# Altium footprint library SM_DIODE_SMA-F.PcbLib: 1 footprints
Each footprint in its own frame and in the unit in brackets; x right, y up, seen from the top. Pads: shape width x height; smd on the part's side, far side on the other; paste and mask are expansions set on the pad; w line width, h text height; cw(c..) or ccw(c..) is an arc to the next point about the centre after c.
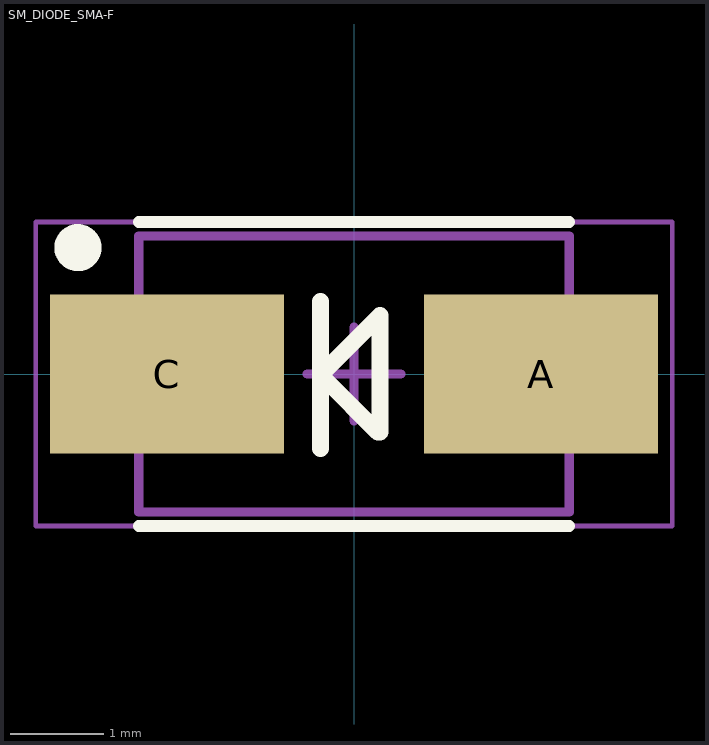
[diagram p0: the footprint, top view; thin cyan lines are the x and y axes]

## SM_DIODE_SMA-F [mm]
height 1.1
pads (2):
  rect 2.5x1.7 smd: A(2,0) C(-2,0)
Top Overlay:
  circle w0.254: c-2.95,1.35 r0.125
  lines w0.127: -2.3,-1.625 2.3,-1.625 ; -2.3,1.625 2.3,1.625
  lines w0.178: -0.358,-0.797 -0.358,0.778 ; -0.358,-0.01 0.277,0.625 0.277,-0.619 ; -0.307,-0.06 0.252,-0.619
Mechanical 13:
  lines w0.1: -2.3,-1.475 -2.3,1.475 2.3,1.475 2.3,-1.475 -2.3,-1.475
Mechanical 15:
  lines w0.05: -3.4,-1.625 -3.4,1.625 3.4,1.625 3.4,-1.625 -3.4,-1.625
  lines w0.1: -0.5,0 0.5,0 ; 0,-0.5 0,0.5
3D body: height 1.1, standoff 0, extent -2.3,-1.475 2.3,1.475